# Altium footprint library Diode_Lumex_SML-LX1206GC-TR_eec_MFG.PcbLib: 1 footprints
Each footprint in its own frame and in the unit in brackets; x right, y up, seen from the top. Pads: shape width x height; smd on the part's side, far side on the other; paste and mask are expansions set on the pad; w line width, h text height; cw(c..) or ccw(c..) is an arc to the next point about the centre after c.
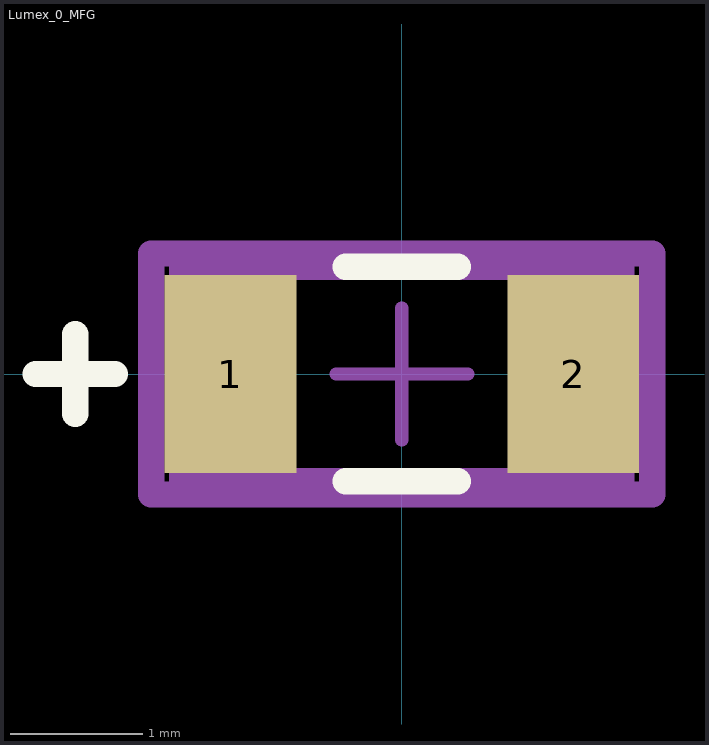
[diagram p0: the footprint, top view; thin cyan lines are the x and y axes]

## Lumex_0_MFG [mm]
pads (2):
  rect 1x1.5 smd paste+0 mask+0: 1(-1.3,0) 2(1.3,0)
Top Overlay:
  lines w0.2: -2.775,0 -2.175,0 ; -2.475,-0.3 -2.475,0.3 ; -0.425,-0.814 0.425,-0.814 ; -0.425,0.814 0.425,0.814
Mechanical 10:
  lines w0.2: -1.9,-0.914 1.9,-0.914 1.9,0.914 -1.9,0.914 -1.9,-0.914
  text ".Designator" at 0,0 h1
Mechanical 12:
  lines w0.2: -1.663,-0.814 1.663,-0.814 1.663,0.814 -1.663,0.814 -1.663,-0.814
Mechanical 15:
  lines w0.1: -0.5,0 0.5,0 ; 0,-0.5 0,0.5
  lines w0.2: -1.9,-0.914 1.9,-0.914 1.9,0.914 -1.9,0.914 -1.9,-0.914
3D body "Diode_Lumex_SML-LX1206GC-TR_eec.STEP": height 0.25, standoff 0, extent -1.9,-0.914 1.9,0.914